# EAGLE library part TEENSY_4.0_UDIP (library FPGA_FOC_lib)
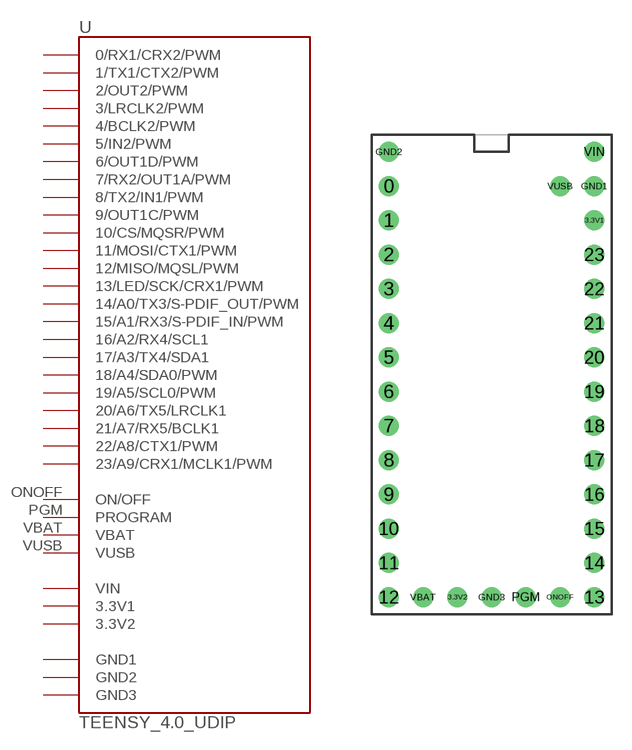
[diagram p16: symbol with the pads of TEENSY_4.0_UDIP; footprint TEENSY_4.0_UDIP]

Designator prefix U

## TEENSY_4.0_UDIP  [TEENSY_4.0_UDIP]
0  0/RX1/CRX2/PWM
1  1/TX1/CTX2/PWM
2  2/OUT2/PWM
3  3/LRCLK2/PWM
3.3V1  3.3V1  pwr
3.3V2  3.3V2  pwr
4  4/BCLK2/PWM
5  5/IN2/PWM
6  6/OUT1D/PWM
7  7/RX2/OUT1A/PWM
8  8/TX2/IN1/PWM
9  9/OUT1C/PWM
10  10/CS/MQSR/PWM
11  11/MOSI/CTX1/PWM
12  12/MISO/MQSL/PWM
13  13/LED/SCK/CRX1/PWM
14  14/A0/TX3/S-PDIF_OUT/PWM
15  15/A1/RX3/S-PDIF_IN/PWM
16  16/A2/RX4/SCL1
17  17/A3/TX4/SDA1
18  18/A4/SDA0/PWM
19  19/A5/SCL0/PWM
20  20/A6/TX5/LRCLK1
21  21/A7/RX5/BCLK1
22  22/A8/CTX1/PWM
23  23/A9/CRX1/MCLK1/PWM
GND1  GND1  pwr
GND2  GND2  pwr
GND3  GND3  pwr
ONOFF  ON/OFF
PGM  PROGRAM
VBAT  VBAT
VIN  VIN  pwr
VUSB  VUSB

## Footprint TEENSY_4.0_UDIP (pad centres in mm)
drill 0.965: 0 -7.62,15.24; 1 -7.62,12.7; 2 -7.62,10.16; 3 -7.62,7.62; 3.3V1 7.62,12.7; 3.3V2 -2.54,-15.24; 4 -7.62,5.08; 5 -7.62,2.54; 6 -7.62,0; 7 -7.62,-2.54; 8 -7.62,-5.08; 9 -7.62,-7.62; 10 -7.62,-10.16; 11 -7.62,-12.7; 12 -7.62,-15.24; 13 7.62,-15.24; 14 7.62,-12.7; 15 7.62,-10.16; 16 7.62,-7.62; 17 7.62,-5.08; 18 7.62,-2.54; 19 7.62,0; 20 7.62,2.54; 21 7.62,5.08; 22 7.62,7.62; 23 7.62,10.16; GND1 7.62,15.24; GND2 -7.62,17.78; GND3 0,-15.24; ONOFF 5.08,-15.24; PGM 2.54,-15.24; VBAT -5.08,-15.24; VIN 7.62,17.78; VUSB 5.08,15.24